# EAGLE library part DIP_SWITCH_6PIN (library Switches)
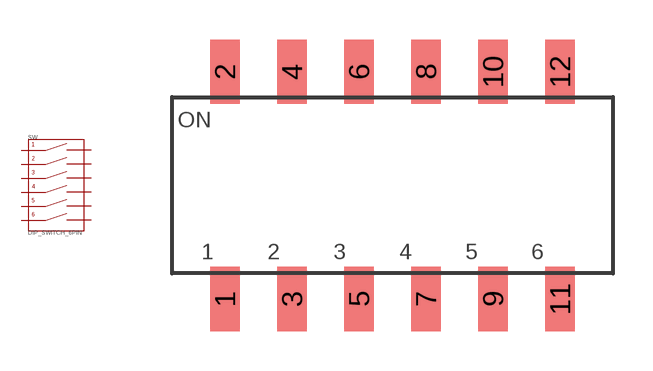
[diagram p1: symbol with the pads of DIP_SW_219-6MST; footprint DIP_SW_219-6MST]

Designator prefix SW

## DIP_SWITCH_6PIN-219-6MST  [DIP_SW_219-6MST]
1  1.0  pas
2  1.1  pas
3  2.0  pas
4  2.1  pas
5  3.0  pas
6  3.1  pas
7  4.0  pas
8  4.1  pas
9  5.0  pas
10  5.1  pas
11  6.0  pas
12  6.1  pas

## Footprint DIP_SW_219-6MST (pad centres in mm)
smd 1.12 x 2.44: 1 -6.35,-4.305; 2 -6.35,4.305; 3 -3.81,-4.305; 4 -3.81,4.305; 5 -1.27,-4.305; 6 -1.27,4.305; 7 1.27,-4.305; 8 1.27,4.305; 9 3.81,-4.305; 10 3.81,4.305; 11 6.35,-4.305; 12 6.35,4.305